# EAGLE library part K-HEADER-MALE-2X3- (library elpp-v1.1)
PIN HEADER 2 rows, 90 degrees
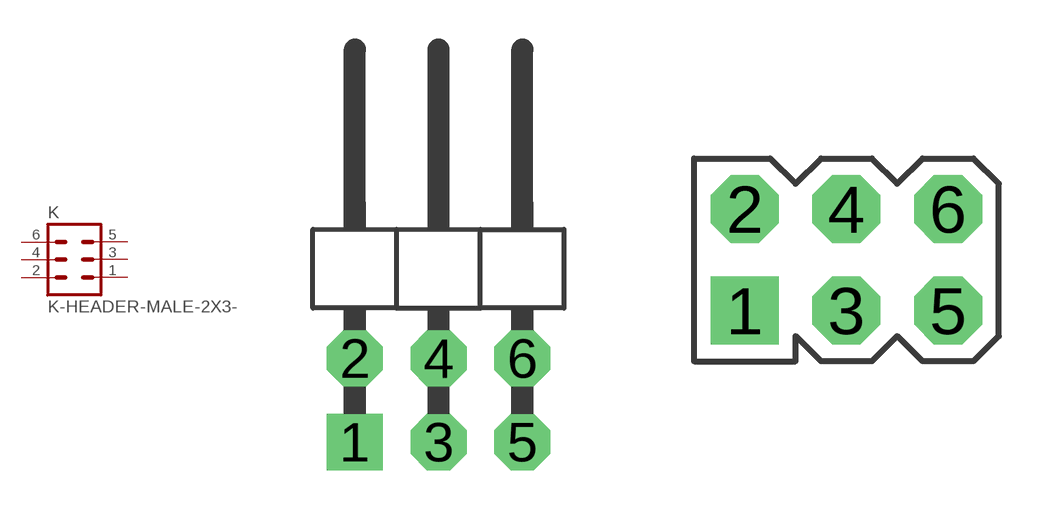
[diagram p29: symbol with the pads of EPP-DIL-M-6-WAY-H; footprints EPP-DIL-M-6-WAY-H, EPP-DIL-M-6-WAY-V]

Designator prefix K

## K-HEADER-MALE-2X3-H (FARNELL: 1056023; RS: 6812666)  [EPP-DIL-M-6-WAY-H]
1  1  pas
2  2  pas
3  3  pas
4  4  pas
5  5  pas
6  6  pas

## K-HEADER-MALE-2X3-V (FARNELL: 1098460; RS: 6812067)  [EPP-DIL-M-6-WAY-V]
Pads as for EPP-DIL-M-6-WAY-H

## Footprint EPP-DIL-M-6-WAY-H (pad centres in mm)
PIN HEADER, 2 rows, 90 degrees
drill 1 pad 1.7 square: 1 -2.54,-1.27
drill 1 pad 1.7 octagon: 2 -2.54,1.27; 3 0,-1.27; 4 0,1.27; 5 2.54,-1.27; 6 2.54,1.27

## Footprint EPP-DIL-M-6-WAY-V (pad centres in mm)
drill 1 pad 1.7 square: 1 -2.54,-1.27
drill 1 pad 1.7 octagon: 2 -2.54,1.27; 3 0,-1.27; 4 0,1.27; 5 2.54,-1.27; 6 2.54,1.27